# EAGLE library part TPS40305 (library TPS40305)
3-20V Synchronous Buck Controller VSON10 Source: Datasheet <https://www.ti.com/lit/gpn/tps40305?HQS=ti-null-null-sf-df-pf-sep-wwe&DCM=yes?hkey=EF798316E3902B6ED9A73243A3159BB0>
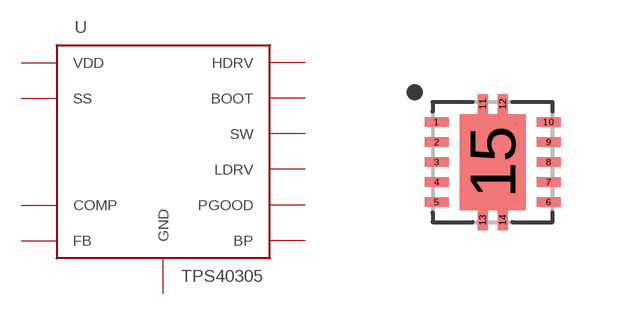
[diagram p0: symbol with the pads of TPS40305; footprint TPS40305]

Designator prefix U

## TPS40305 (DESCRIPTION: 3-20V Synchronous Buck Controller VSON10; HEIGHT: 1mm; MANUFACTURER_NAME: Texas Instruments; MANUFACTURER_PART_NUMBER: TPS40305DRCT; MOUSER_PART_NUMBER: 595-TPS40305DRCT; MOUSER_PRICE-STOCK: https://www.mouser.co.uk/ProductDetail/Texas-Instruments/TPS40305DRCT?qs=%2Fqzd9s%252BcLd6HGzrp6N31Wg%3D%3D)  [TPS40305]
1  VDD
2  SS
3  PGOOD
4  COMP
5  FB
6  BOOT
7  HDRV
8  SW
9  LDRV
10  BP
11  GND
12  GND
13  GND
14  GND
15  GND

## Footprint TPS40305 (pad centres in mm)
TPS40305DRCT-2
smd 0.6 x 0.24: 1 -1.4,1; 2 -1.4,0.5; 3 -1.4,0; 4 -1.4,-0.5; 5 -1.4,-1; 6 1.4,-1; 7 1.4,-0.5; 8 1.4,0; 9 1.4,0.5; 10 1.4,1
smd 0.25 x 0.5: 11 -0.25,1.45; 12 0.25,1.45; 13 -0.25,-1.45; 14 0.25,-1.45
smd 1.65 x 2.4: 15 0,0